# EAGLE library part 691230110006 (library Wurth_Elektronik_Electromechanic_Terminal_Blocks_Connectors_rev16b)
WR-TBL Serie 2301 – 3.50mm Double Level Horizontal Entry Modular With Rising Cage Clamp, 6 Pins=>Code : Con_TBL_Screw_RisingClamp_3.50_691230110006 <http://katalog.we-online.de/media/images/eican/Con_TBL_Screw_RisingClamp_3.50_6912301100xx_pf2.jpg> Details see: http://katalog.we-online.de/en/em/691_230_110_0xx Created 2014-06-18, Karrer Zheng 2014 (C) Würth Elektronik
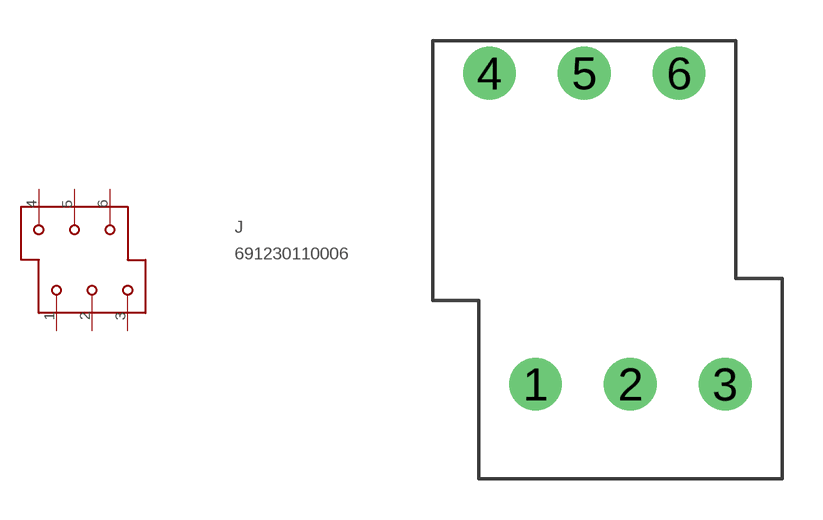
[diagram p381: symbol with the pads of 691230110006; footprint 691230110006]

Designator prefix J

## 691230110006  [691230110006]
1  1  pas
2  2  pas
3  3  pas
4  4  pas
5  5  pas
6  6  pas

## Footprint 691230110006 (pad centres in mm)
WR-TBL Serie 2301 – 3.50mm Double Level Horizontal Entry Modular With Rising Cage Clamp, 6 Pins
drill 1.3: 1 -3.5,0; 2 0,0; 3 3.5,0; 4 -5.2,11.5; 5 -1.7,11.5; 6 1.8,11.5